# EAGLE library part --MERGED_74XX244-OCTAL-TRISTATE-BUFFERS (library proxmark3_exported_and_modified_components)
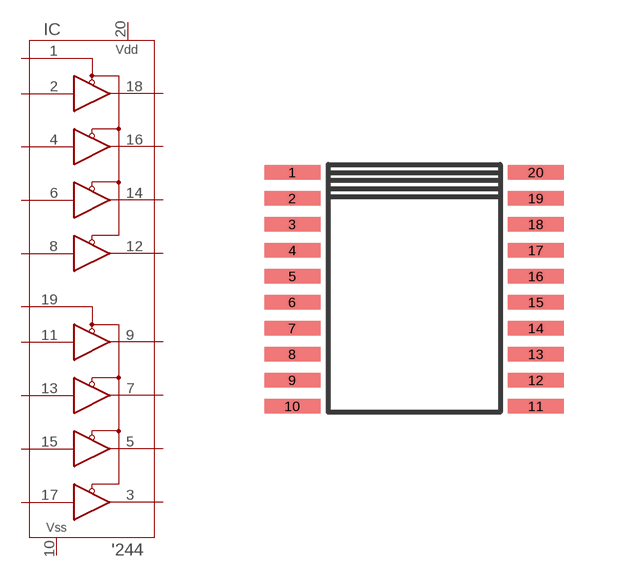
[diagram p0: symbol with the pads of --MERGED_TSSOP-20; footprint --MERGED_TSSOP-20]

Designator prefix IC

## --MERGED_74XX244-OCTAL-TRISTATE-BUFFERS  [--MERGED_TSSOP-20]
1  1NOE
2  1A1
3  2Y4
4  1A2
5  2Y3
6  1A3
7  2Y2
8  1A4
9  2Y1
10  VSS
11  2A1
12  1Y4
13  2A2
14  1Y3
15  2A3
16  1Y2
17  2A4
18  1Y1
19  2NOE
20  VDD

## Footprint --MERGED_TSSOP-20 (pad centres in mm)
smd 1.4 x 0.36: 1 0,0; 2 0,-0.65; 3 0,-1.3; 4 0,-1.95; 5 0,-2.6; 6 0,-3.25; 7 0,-3.9; 8 0,-4.55; 9 0,-5.2; 10 0,-5.85; 11 6.095,-5.85; 12 6.095,-5.2; 13 6.095,-4.55; 14 6.095,-3.9; 15 6.095,-3.25; 16 6.095,-2.6; 17 6.095,-1.95; 18 6.095,-1.3; 19 6.095,-0.65; 20 6.095,0